# Altium schematic symbol library KSZ8863EthernetSwitch.SCHLIB: 7 symbols
Pins are listed as number, name and electrical type; pins without a type are passive.

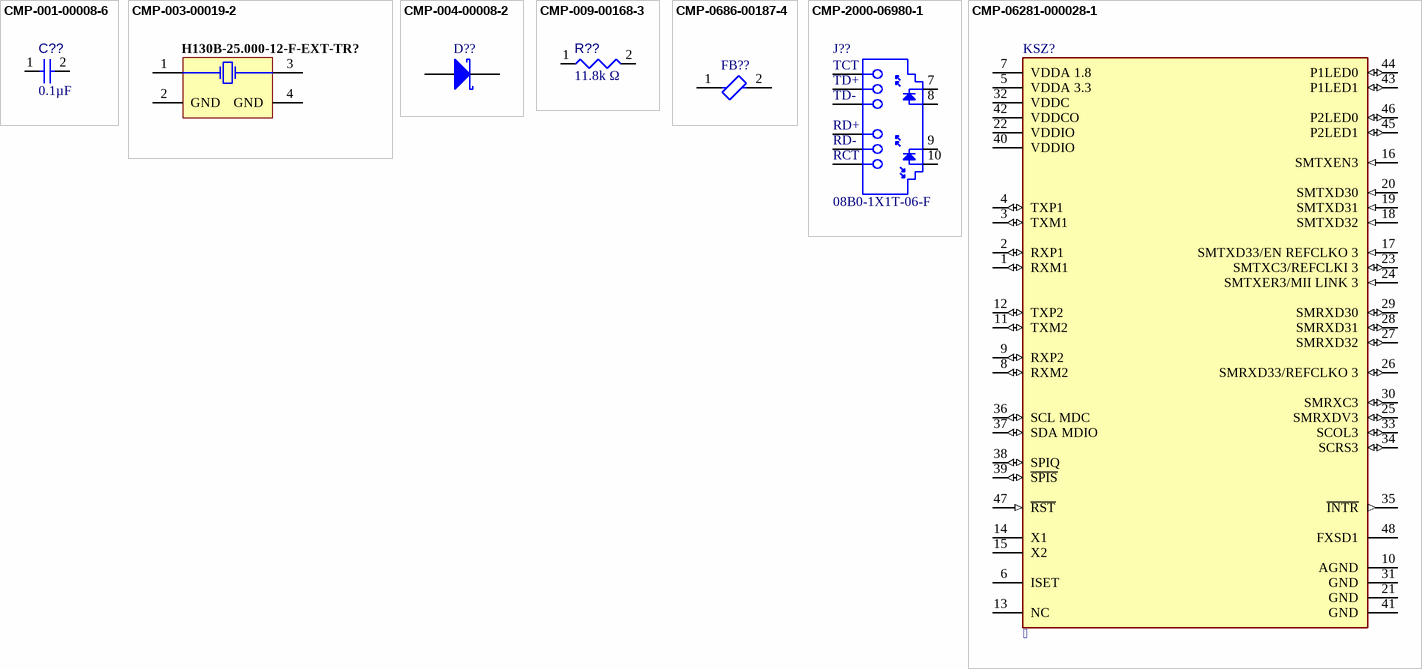
[diagram p0: symbols CMP-001-00008-6 to CMP-06281-000028-1]

## CMP-001-00008-6
designator C??, comment value 0.1µF  (hidden comment: Capacitor 1 uF +/- 10% 6.3 V 0402)
Chip Capacitor, 1 uF, +/- 10%, 6.3 V, 0402 (1005 Metric); Manufacturer: TDK; Manufacturer Part Number: C1005X6S0J105K050BC; Manufacturer: Murata; Manufacturer Part Number: GRM155R60J105KE19D; Manufacturer: Kyocera AVX; Manufacturer Part Number: 04026D105KAT2A; Capacitor Type: Ceramic; Voltage Rating: 6.3V; Max Operating Temperature: 85°C; Mounting Technology: SM; Tolerance: 10%; Case/Package: 0402; RoHS Compliant: True; Min Operating Temperature: -55°C; Pins: 2; Component Type: Capacitors
footprint CAPC1005X55X25LL05T10 (Chip Capacitor, 2-Leads, Body 1.05x0.55mm, IPC High Density)
footprint CAPC1005X55X25ML05T10 (Chip Capacitor, 2-Leads, Body 1.05x0.55mm, IPC Low Density)
footprint CAPC1005X55X25NL05T10 (Chip Capacitor, 2-Leads, Body 1.05x0.55mm, IPC Medium Density)
pins: 1, 2

## CMP-003-00019-2
designator H130B-25.000-12-F-EXT-TR?
Ceramic SMD Crystal, 24 MHz, +/- 20 ppm, 18 pF, -20 to 70 degC, 4-Pin SMD, RoHS, Tape and Reel; Manufacturer: Abracon; Manufacturer Part Number: ABM3B-24.000MHZ-B2-T; Load Capacitance: 18pF; Frequency Tolerance: 20ppm; ESR: 50; Resistance: 50Ohm; Frequency: 24MHz; Package Quantity: 1000; Packaging: TapeandReel; RoHS Compliant: True; Package Description: 4-Pin Surface Mount Device, Body 5 x 3.2 mm; Mounting Technology: SM; Pins: 4; Datasheet URL: http://www.abracon.com/Resonators/abm3b.pdf; Tolerance: 20ppm; Manufacturer URL: http://www.abracon.com/; Max Operating Temperature: 70°C; Datasheet Version: Aug-15; Min Operating Temperature: -20°C; Package Reference: ABM3B; Case/Package: CSMD; Component Type: Crystals & Oscillators
footprint ABRA-ABM3B-4_V (SMD, 4-Leads, Body 5x3.2mm)
pins: 1 X1, 2 GND (power), 3 X2, 4 GND (power)

## CMP-004-00008-2
designator D??
Axial Lead Rectifier, 60 V, 3 A, -65 to 150 degC, 2-Pin DO-201AD, RoHS, Bag; Manufacturer: ON Semiconductor; Manufacturer: onsemi; Manufacturer Part Number: MBR360G; Forward Current: 3A; Forward Voltage: 1.08V; Peak Reverse Current: 600uA; Max Surge Current: 80A; Package URL: http://www.onsemi.com/pub_link/Collateral/267-05.PDF; Datasheet URL: http://www.onsemi.cn/pub_link/Collateral/MBR350-D.PDF; Package Description: 2-Pin Axial Lead, Dia 5.05 mm, Body Length 8.4 mm; Package Reference: AXIAL_LEAD-2-267-05; Diameter: 5.3mm; Datasheet Version: Rev. 6, 06/2006; Package Quantity: 500; Packaging: Bulk; Manufacturer URL: http://www.onsemi.com/; Pins: 2; Max Operating Temperature: 150°C; Min Operating Temperature: -65°C; Mounting Technology: TH; RoHS Compliant: True; Case/Package: AXIAL_LEAD-2-267-05; Component Type: Diodes
footprint ONSC-AXIAL_LEAD-2-267-05_V (AXIAL, 2-Leads, Diameter 5.05mm)
pins: 1 A, 2 K

## CMP-009-00168-3
designator R??, comment value 11.8k Ω  (hidden comment: Resistor 100K +/-1 % 0402 63 mW)
Chip Resistor, 100 kOhms, +/-1 %, 63 mW, -55 to 155 degC, 0402; Manufacturer: Vishay Dale; Manufacturer Part Number: CRCW0402100KFKEE; Manufacturer Part Number: CRCW0402100KFKTD; Manufacturer: Bourns; Manufacturer Part Number: CR0402-FX-1003GLF; Manufacturer: Yageo; Manufacturer Part Number: RC0402FR-07100KL; Manufacturer: Vishay; Manufacturer Part Number: CRCW0402100KFKED; Manufacturer: Panasonic; Manufacturer Part Number: ERJ-2RKF1003X; Tolerance: 1%; Power: 63mW; Max Operating Temperature: 155°C; Min Operating Temperature: -55°C; Pins: 2; Case/Package: 0402; Component Type: Resistors
footprint RESC0402(1005)_L (Chip Resistor, Body 1.0x0.5mm, IPC High Density)
pins: 1, 2
1 alternate drawing of the same symbol

## CMP-0686-00187-4
designator FB??
Chip Ferrite Bead, 0402, 600Ω @ 100MHz, 0.52Ω, 25%, 300mA; DC Resistance-Max: 600mR; Number of Lines: 1; DC Resistance (DCR): 520mR; Shielding: Unshielded; Impedance: 600R; Material: Steel; Frequency: 100MHz; Lead Free: Lead Free; Max DC Current: 300mA; Test Frequency: 100MHz; Depth: 0.55mm; Length: 1mm; Case Code (Imperial): 0402; Packaging: Tape and Reel; Height: 0.5mm; Max Operating Temperature: 125°C; Military Standard: Not; REACH SVHC: No SVHC; Case Code (Metric): 1005; Series: BLM15AG_SN; Core Material: Ferrite; Termination: SMD/SMT; DC Current: 300mA; Package Quantity: 10000; Width: 0.5mm; RoHS Compliant: Yes; Min Operating Temperature: -55°C; Current Rating: 300mA; Case/Package: 0402; Number of Pins: 2; Radiation Hardening: No; Tolerance: 25%; Number of Circuits: 1; Max Current Rating: 300mA
footprint FP-BLM15-0_05-MFG
footprint FP-BLM15-0_05-IPC_A
footprint FP-BLM15-0_05-IPC_B
footprint FP-BLM15-0_05-IPC_C
pins: 1, 2

## CMP-2000-06980-1
designator J??, comment 08B0-1X1T-06-F
MagJack; Manufacturer: Amphenol; Number of Positions/Contacts: 8p8c(RJ45,Ethernet); Number of Ports: 1; Catalog Drawings: RJ45SeriesRightAngle; PCN Design/Specification: MultipleSeriesCopper29/Jan/2009RJHSEShieldMaterial30/Jun/2015; Other Names: RJHSE5381; Online Catalog: RJHSESeries; Featured Product: ModularJacksProductSolutions; Tab Direction: Up; Shielding: Shielded,EMIFinger; LED Color: Yellow-Green; 3D Model: RJHSE538x.stpRJHSE538x.igs; Connector Type: Jack; Category: Connectors,Interconnects; Termination: Solder; Housing Material: Thermoplastic; Mounting Type: ThroughHole; Family: ModularConnectors-Jacks; Orientation: 90°Angle(Right); Features: BoardLock; Contact Material: PhosphorBronze; Mounting Technology: ThroughHole; Number of Rows: 1; Standard Package: 120; Ratings: -; Operating Temperature: -55°C~85°C; Series: RJHSE; Contact Finish: Gold; Package Reference: RJHSE-5381; Ingress Protection: -; Package Description: 12-Pin Through Hole Device, Body 16.51 x 15.75 mm; Contact Finish Thickness: 50µin(1.27µm); Datasheet URL: https://datasheet.ciiva.com/16481/rjhse538x-16481714.pdf; Datasheet Version: Rev. K, 04/2014; Manufacturer URL: http://www.amphenol.com/; Packaging: Tray
footprint AMPH-RJHSE-5381_V (THD, 12-Leads, Body 16.51x15.75mm)
pins: 1 TCT, 2 TD+, 3 TD-, 4 RD+, 5 RD-, 6 RCT, 7 9, 8 10, 9 11, 10 12

## CMP-06281-000028-1
designator KSZ?, comment 
IC ETHERNET SWITCH 3PORT 48-LQFP; Max Supply Voltage: 3.465V; Max Supply Current: 112mA; Nominal Supply Current: 85mA; Interface: I2C; Min Supply Voltage: 1.71V; Number of Functions: 3; Operating Supply Voltage: 3.3V; Number of Transceivers: 1; Data Rate: 100Mbps; Max Operating Temperature: 85°C; Height: 1.3mm; Length: 7.1mm; Min Operating Temperature: -40°C; RoHS Compliant: Yes; Width: 7.1mm; Mount: Surface Mount; Series: -; Package Quantity: 250; Supply Current: 85mA; REACH SVHC: No SVHC; Lead Free: Lead Free; Number of Ports: 3; Number of Pins: 48; Supply Voltage-Nom: 3.3V; Radiation Hardening: No; Packaging: Tray; Case/Package: LQFP
footprint FP-LQFP7x7-48LD-PL-1-MFG
footprint FP-LQFP7x7-48LD-PL-1-IPC_C
footprint FP-LQFP7x7-48LD-PL-1-IPC_B
footprint FP-LQFP7x7-48LD-PL-1-IPC_A
pins: 1 RXM1 (io), 2 RXP1 (io), 3 TXM1 (io), 4 TXP1 (io), 5 VDDA 3.3 (power), 6 ISET, 7 VDDA 1.8 (power), 8 RXM2 (io), 9 RXP2 (io), 10 AGND (power), 11 TXM2 (io), 12 TXP2 (io), 13 NC, 14 X1, 15 X2, 16 SMTXEN3 (in), 17 SMTXD33/EN REFCLKO 3 (in), 18 SMTXD32 (in), 19 SMTXD31 (in), 20 SMTXD30 (in), 21 GND (power), 22 VDDIO (power), 23 SMTXC3/REFCLKI 3 (io), 24 SMTXER3/MII LINK 3 (in), 25 SMRXDV3 (io), 26 SMRXD33/REFCLKO 3 (io), 27 SMRXD32 (io), 28 SMRXD31 (io), 29 SMRXD30 (io), 30 SMRXC3 (io), 31 GND (power), 32 VDDC (power), 33 SCOL3 (io), 34 SCRS3 (io), 35 ~{INTR} (out), 36 SCL MDC (io), 37 SDA MDIO (io), 38 SPIQ (io), 39 ~{SPIS} (io), 40 VDDIO (power), 41 GND (power), 42 VDDCO (power), 43 P1LED1 (io), 44 P1LED0 (io), 45 P2LED1 (io), 46 P2LED0 (io), 47 ~{RST} (in), 48 FXSD1